# EAGLE library part FDS6680S (library wheat)
MOSFET W/ RECT, NCH SO8, FDS6680S
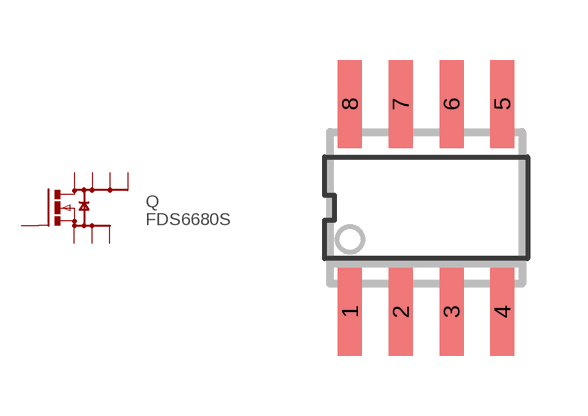
[diagram p36: symbol with the pads of SO8; footprint SO8]

Designator prefix Q

## FDS6680S  [SO8]
1  S1  pas
2  S2
3  S3
4  G  pas
5  D1  pas
6  D2
7  D3
8  D4

## Footprint SO8 (pad centres in mm)
SO8
smd 0.6 x 2.2: 1 -1.905,-2.6; 2 -0.635,-2.6; 3 0.635,-2.6; 4 1.905,-2.6; 5 1.905,2.6; 6 0.635,2.6; 7 -0.635,2.6; 8 -1.905,2.6